# Altium footprint library LEDMATRIX.PcbLib: 4 footprints
Each footprint in its own frame and in the unit in brackets; x right, y up, seen from the top. Pads: shape width x height; smd on the part's side, far side on the other; paste and mask are expansions set on the pad; w line width, h text height; cw(c..) or ccw(c..) is an arc to the next point about the centre after c.
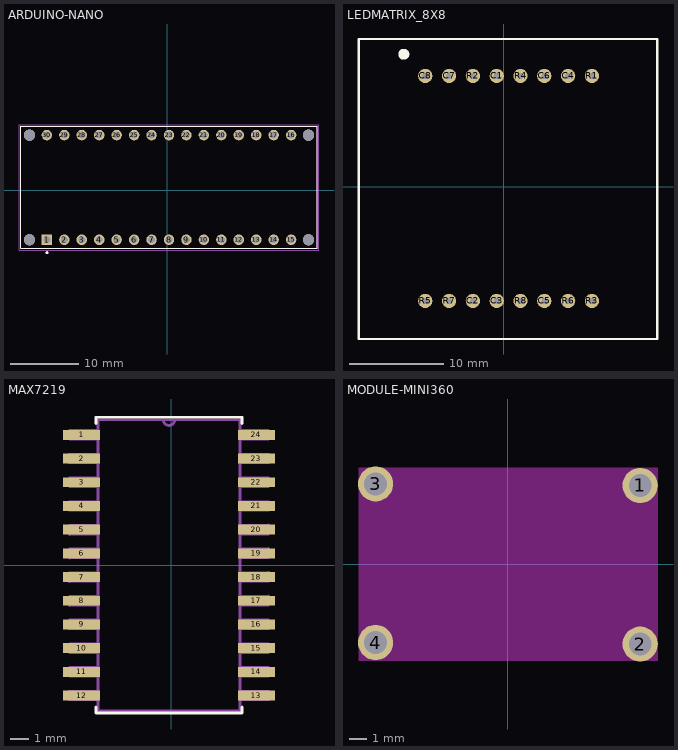
[diagram p0: the footprints below, top view; thin cyan lines are the x and y axes]

## ARDUINO-NANO [mil]
pads (34):
  rect 60x60 / inner round 60 / far side rect 60x60 hole 40: 1(-690,-285)
  round 60 hole 40: 2(-590,-285) 3(-490,-285) 4(-390,-285) 5(-290,-285) 6(-190,-285) 7(-90,-285) 8(10,-285) 9(110,-285) 10(210,-285) 11(310,-285) 12(410,-285) 13(510,-285) 14(610,-285) 15(710,-285) 16(710,315) 17(610,315) 18(510,315) 19(410,315) 20(310,315) 21(210,315) 22(110,315) 23(10,315) 24(-90,315) 25(-190,315) 26(-290,315) 27(-390,315) 28(-490,315) 29(-590,315) 30(-690,315)
  round 65 hole 65 unplated: ""(-790,-285) ""(-790,315) ""(810,-285) ""(810,315)
Top Overlay:
  circle w7.87: c-690,-359.02 r3.94
  lines w5: -840,-335 860,-335 860,365 -840,365 -840,-335
Mechanical 13:
  circle w7.87: c-690,-359.02 r3.94
  lines w5: -840,-335 860,-335 860,365 -840,365 -840,-335
Mechanical 15:
  lines w1.97: -849.84,-344.84 869.84,-344.84 869.84,374.84 -849.84,374.84 -849.84,-344.84
3D body "step_temp.STEP": height 236.22, standoff -236.22, extent -885.28,-335 860,365

## LEDMATRIX_8X8 [mil] "3mm"
pads (16):
  round 60 hole 25.59: C1(-30,464.88) C2(-130,-480) C3(-30,-480) C4(270,464.88) C5(170,-480) C6(170,464.88) C7(-230,464.88) C8(-330,464.88) R1(370,464.88) R2(-130,464.88) R3(370,-480) R4(70,464.88) R5(-330,-480) R6(270,-480) R7(-230,-480) R8(70,-480)
Top Overlay:
  circle w10: c-420,555.99 r11.18
  circle w10: c-420,555.99 r18.03
  lines w10: -420,574.01 -420,545.99 -430,555.99 -405,555.99 ; -610,-640 645,-640 645,620 -610,620 -610,-640
3D body "LED_MATRIX_8X8-32X32MM.stp": height 239.37, standoff -106.3, extent -609.55,-639.21 650.29,620.63

## MAX7219 [mil]
pads (24):
  rect 78x21 smd: 1(-189.5,275) 2(-189.5,225) 3(-189.5,175) 4(-189.5,125) 5(-189.5,75) 6(-189.5,25) 7(-189.5,-25) 8(-189.5,-75) 9(-189.5,-125) 10(-189.5,-175) 11(-189.5,-225) 12(-189.5,-275) 13(179.5,-275) 14(179.5,-225) 15(179.5,-175) 16(179.5,-125) 17(179.5,-75) 18(179.5,-25) 19(179.5,25) 20(179.5,75) 21(179.5,125) 22(179.5,175) 23(179.5,225) 24(179.5,275)
Top Overlay:
  lines w6: -159,-299 -159,-312 149,-312 149,-299 ; -159,299 -159,312 149,312 149,299
Mechanical 13:
  lines w6: -17,307 ccw(c-5,307) 7,307 ; -17,307 -155,307 -155,-307 145,-307 145,307 7,307 ; -17,307 7,307 ; -215,-284 -155,-284 -155,-266 -215,-266 -215,-284 ; -215,-234 -155,-234 -155,-216 -215,-216 -215,-234 ; -215,-184 -155,-184 -155,-166 -215,-166 -215,-184 ; -215,-134 -155,-134 -155,-116 -215,-116 -215,-134 ; -215,-85 -155,-84 -155,-66 -215,-66 -215,-85 ; -215,-35 -155,-34 -155,-16 -215,-16 -215,-35 ; -215,15 -155,16 -155,34 -215,34 -215,15 ; -215,65 -155,66 -155,84 -215,84 -215,65 ; -215,116 -155,116 -155,134 -215,134 -215,116 ; -215,166 -155,166 -155,184 -215,184 -215,166 ; -215,216 -155,216 -155,234 -215,234 -215,216 ; -215,266 -155,266 -155,284 -215,284 -215,266 ; 145,-284 205,-284 205,-266 145,-266 145,-284 ; 145,-234 205,-234 205,-216 145,-216 145,-234 ; 145,-184 205,-184 205,-166 145,-166 145,-184 ; 145,-134 205,-134 205,-116 145,-116 145,-134 ; 145,-84 205,-84 205,-65 145,-66 145,-84 ; 145,-34 205,-34 205,-15 145,-16 145,-34 ; 145,16 205,16 205,35 145,34 145,16 ; 145,66 205,66 205,85 145,84 145,66 ; 145,116 205,116 205,134 145,134 145,116 ; 145,166 205,166 205,184 145,184 145,166 ; 145,216 205,216 205,234 145,234 145,216 ; 145,266 205,266 205,284 145,284 145,266
3D body "step_temp.STEP": height 104.33, standoff 0, extent -208.25,-303.15 198.25,303.15

## MODULE-MINI360 [mm]
pads (4):
  round 2 hole 1.3 mask+0: 1(7.52,4.466) 2(7.52,-4.534) 3(-7.493,4.555) 4(-7.493,-4.445)
Top Layer keep-out:
  rectangle: -8.47,-5.503 8.53,5.497